# Altium schematic symbol library PD.Schlib: 1 symbol
Pins are listed as number, name and electrical type; pins without a type are passive.

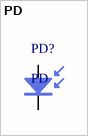
[diagram p0: symbol PD]

## PD
designator PD?
pins: 1 K, 2 A